# Altium schematic symbol library 20p_plastic_DIP.SchLib: 1 symbol
Pins are listed as number, name and electrical type; pins without a type are passive.

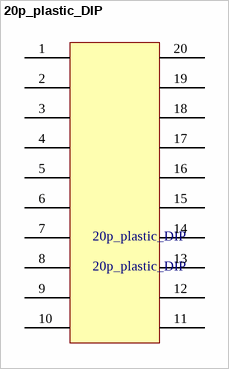
[diagram p0: symbol 20p_plastic_DIP]

## 20p_plastic_DIP
designator 20p_plastic_DIP
footprint 20p_plastic_DIP
pins: 1, 2, 3, 4, 5, 6, 7, 8, 9, 10, 11, 12, 13, 14, 15, 16, 17, 18, 19, 20